# EAGLE library part USB2UART (library hw6library_Ian)
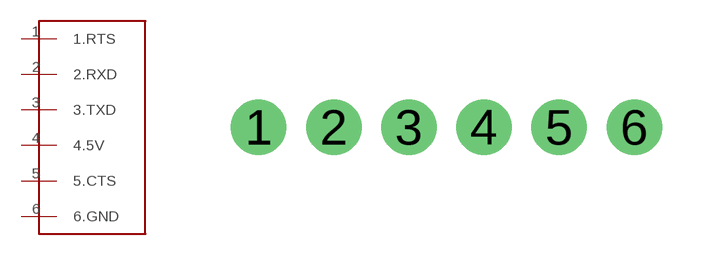
[diagram p8: symbol with the pads of USB2UART; footprint USB2UART]

Designator prefix -

## USB2UART  [USB2UART]
1  1.RTS
2  2.RXD
3  3.TXD
4  4.5V
5  5.CTS
6  6.GND

## Footprint USB2UART (pad centres in mm)
drill 1.016 pad 1.88: 1 -6.35,0; 2 -3.81,0; 3 -1.27,0; 4 1.27,0; 5 3.81,0; 6 6.35,0